# Altium footprint library LEDC1608X75N.PcbLib: 1 footprints
Each footprint in its own frame and in the unit in brackets; x right, y up, seen from the top. Pads: shape width x height; smd on the part's side, far side on the other; paste and mask are expansions set on the pad; w line width, h text height; cw(c..) or ccw(c..) is an arc to the next point about the centre after c.
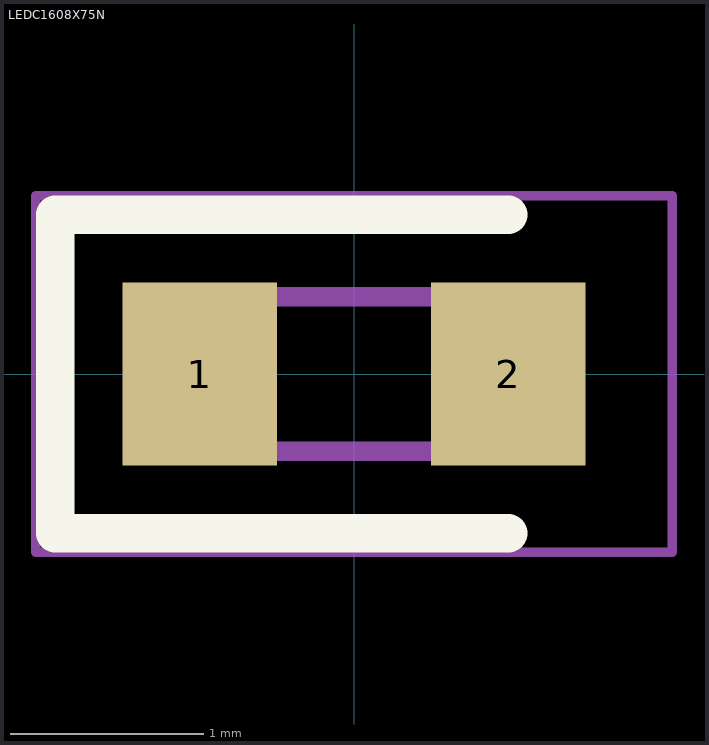
[diagram p0: the footprint, top view; thin cyan lines are the x and y axes]

## LEDC1608X75N [mm]
pads (2):
  rect 0.8x0.95 smd: 1(-0.8,0) 2(0.8,0)
Top Overlay:
  lines w0.2: 0.8,-0.825 -1.55,-0.825 -1.55,0.825 0.8,0.825
Mechanical 15:
  lines w0.1: -0.8,0.133 -0.533,0.4 ; -0.8,-0.4 -0.8,0.4 0.8,0.4 0.8,-0.4 -0.8,-0.4
Mechanical 20:
  lines w0.05: -1.65,-0.925 -1.65,0.925 1.65,0.925 1.65,-0.925 -1.65,-0.925
3D body "KPH-1608SGC.stp": height 0.75, standoff 0, extent -0.8,-0.406 0.8,0.394